# Altium footprint library NSR1020MW2T1G.PcbLib: 3 footprints
Each footprint in its own frame and in the unit in brackets; x right, y up, seen from the top. Pads: shape width x height; smd on the part's side, far side on the other; paste and mask are expansions set on the pad; w line width, h text height; cw(c..) or ccw(c..) is an arc to the next point about the centre after c.
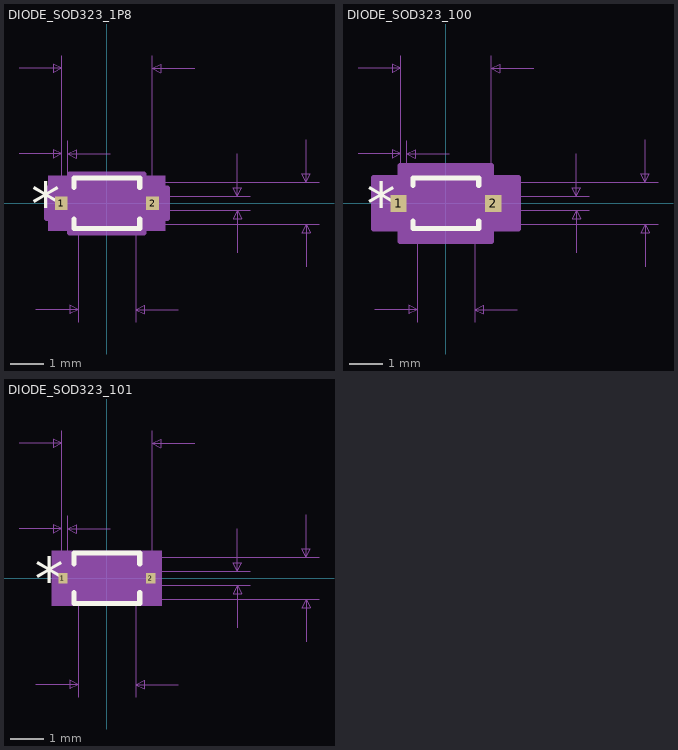
[diagram p0: the footprints below, top view; thin cyan lines are the x and y axes]

## DIODE_SOD323_1P8 [mil]
pads (2):
  rect 15x16 smd paste+0 mask+0: 1(-53.5,0) 2(53.5,0)
Top Overlay:
  lines w6: -38.5,-18.74 -38.5,-29.5 38.5,-29.5 38.5,-18.74 ; -38.5,18.74 -38.5,29.5 38.5,29.5 38.5,18.74
  text "*" at -88.5,-25 h50
Mechanical 5:
  region: 68.5,-32 -68.5,-32 -68.5,32 68.5,32
Mechanical 7:
  lines w1: -103,58 -53,58 ; -103,158 -53,158 ; -83.5,-124.5 -33.5,-124.5 ; -53,73 -53,0 -53,173 ; -46,0 -46,73 ; -33.5,-139.5 -33.5,0 ; 0,-24.5 248.5,-24.5 ; 0,24.5 248.5,24.5 ; 4,58 -46,58 ; 33.5,-139.5 33.5,0 ; 53,-8 168,-8 ; 53,0 53,173 ; 53,8 168,8 ; 83.5,-124.5 33.5,-124.5 ; 103,158 53,158 ; 153,-58 153,-8 ; 153,58 153,8 ; 233.5,-74.5 233.5,-24.5 ; 233.5,74.5 233.5,24.5 ; -53,58 -63,63 -63,53 -53,58 ; -53,158 -63,163 -63,153 -53,158 ; -46,58 -36,63 -36,53 -46,58 ; -33.5,-124.5 -43.5,-119.5 -43.5,-129.5 -33.5,-124.5 ; 33.5,-124.5 43.5,-119.5 43.5,-129.5 33.5,-124.5 ; 53,158 63,163 63,153 53,158 ; 153,-8 148,-18 158,-18 153,-8 ; 153,8 148,18 158,18 153,8 ; 233.5,-24.5 228.5,-34.5 238.5,-34.5 233.5,-24.5 ; 233.5,24.5 228.5,34.5 238.5,34.5 233.5,24.5
  text "Default Padstyle: RX15Y16D0T" at -350,-333 h50
  text "Alt 1 Padstyle: OX60Y90D30P" at -337.5,-408 h50
  text "Alt 2 Padstyle: OX90Y60D30P" at -337.5,-483 h50
  text "0.106in/2.692mm" at -93.75,178 h25
  text "0.007in/0.178mm" at -143.25,78 h25
  text "0.016in/0.406mm" at 173,-12.5 h25
  text "0.049in/1.245mm" at 253.5,-12.5 h25
  text "0.067in/1.702mm" at -93.75,-169.5 h25
Mechanical 13:
  lines w1: -33.5,-12.25 -21.25,-24.5 ; -33.5,12.25 -21.25,24.5 ; -53,-8 -53,8 -33.5,8 -33.5,-8 -53,-8 ; -33.5,-24.5 33.5,-24.5 33.5,24.5 -33.5,24.5 -33.5,-24.5 ; 33.5,-8 33.5,8 53,8 53,-8 33.5,-8
  text "*" at -36,-25 h50
Mechanical 15:
  region: -43.5,-18 -71,-18 -71,18 -43.5,18 -43.5,34.5 43.5,34.5 43.5,18 71,18 71,-18 43.5,-18 43.5,-34.5 -43.5,-34.5
  lines w6: -71,-18 -71,18 -43.5,18 -43.5,34.5 43.5,34.5 43.5,18 71,18 71,-18 43.5,-18 43.5,-34.5 -43.5,-34.5 -43.5,-18 -71,-18
3D body: height 10, standoff 0, extent 0,0 10,10

## DIODE_SOD323_100 [mil]
pads (2):
  rect 19x20 smd paste+0 mask+0: 1(-55.5,0) 2(55.5,0)
Top Overlay:
  lines w6: -38.5,-20.74 -38.5,-29.5 38.5,-29.5 38.5,-20.74 ; -38.5,20.74 -38.5,29.5 38.5,29.5 38.5,20.74
  text "*" at -92.5,-25 h50
Mechanical 5:
  region: 72.5,-32 -72.5,-32 -72.5,32 72.5,32
Mechanical 7:
  lines w1: -103,58 -53,58 ; -103,158 -53,158 ; -83.5,-124.5 -33.5,-124.5 ; -53,73 -53,0 -53,173 ; -46,0 -46,73 ; -33.5,-139.5 -33.5,0 ; 0,-24.5 248.5,-24.5 ; 0,24.5 248.5,24.5 ; 4,58 -46,58 ; 33.5,-139.5 33.5,0 ; 53,-8 168,-8 ; 53,0 53,173 ; 53,8 168,8 ; 83.5,-124.5 33.5,-124.5 ; 103,158 53,158 ; 153,-58 153,-8 ; 153,58 153,8 ; 233.5,-74.5 233.5,-24.5 ; 233.5,74.5 233.5,24.5 ; -53,58 -63,63 -63,53 -53,58 ; -53,158 -63,163 -63,153 -53,158 ; -46,58 -36,63 -36,53 -46,58 ; -33.5,-124.5 -43.5,-119.5 -43.5,-129.5 -33.5,-124.5 ; 33.5,-124.5 43.5,-119.5 43.5,-129.5 33.5,-124.5 ; 53,158 63,163 63,153 53,158 ; 153,-8 148,-18 158,-18 153,-8 ; 153,8 148,18 158,18 153,8 ; 233.5,-24.5 228.5,-34.5 238.5,-34.5 233.5,-24.5 ; 233.5,24.5 228.5,34.5 238.5,34.5 233.5,24.5
  text "Default Padstyle: RX19Y20D0T" at -350,-335 h50
  text "Alt 1 Padstyle: OX60Y90D30P" at -337.5,-410 h50
  text "Alt 2 Padstyle: OX90Y60D30P" at -337.5,-485 h50
  text "0.106in/2.692mm" at -93.75,178 h25
  text "0.007in/0.178mm" at -143.25,78 h25
  text "0.016in/0.406mm" at 173,-12.5 h25
  text "0.049in/1.245mm" at 253.5,-12.5 h25
  text "0.067in/1.702mm" at -93.75,-169.5 h25
Mechanical 13:
  lines w1: -33.5,-12.25 -21.25,-24.5 ; -33.5,12.25 -21.25,24.5 ; -53,-8 -53,8 -33.5,8 -33.5,-8 -53,-8 ; -33.5,-24.5 33.5,-24.5 33.5,24.5 -33.5,24.5 -33.5,-24.5 ; 33.5,-8 33.5,8 53,8 53,-8 33.5,-8
  text "*" at -36,-25 h50
Mechanical 15:
  region: -53.5,-30 -85,-30 -85,30 -53.5,30 -53.5,44.5 53.5,44.5 53.5,30 85,30 85,-30 53.5,-30 53.5,-44.5 -53.5,-44.5
  lines w6: -85,-30 -85,30 -53.5,30 -53.5,44.5 53.5,44.5 53.5,30 85,30 85,-30 53.5,-30 53.5,-44.5 -53.5,-44.5 -53.5,-30 -85,-30
3D body: height 10, standoff 0, extent 0,0 10,10

## DIODE_SOD323_101 [mil]
pads (2):
  rect 11x12 smd paste+0 mask+0: 1(-51.5,0) 2(51.5,0)
Top Overlay:
  lines w6: -38.5,-16.74 -38.5,-29.5 38.5,-29.5 38.5,-16.74 ; -38.5,16.74 -38.5,29.5 38.5,29.5 38.5,16.74
  text "*" at -84.5,-25 h50
Mechanical 5:
  region: 64.5,-32 -64.5,-32 -64.5,32 64.5,32
Mechanical 7:
  lines w1: -103,58 -53,58 ; -103,158 -53,158 ; -83.5,-124.5 -33.5,-124.5 ; -53,73 -53,0 -53,173 ; -46,0 -46,73 ; -33.5,-139.5 -33.5,0 ; 0,-24.5 248.5,-24.5 ; 0,24.5 248.5,24.5 ; 4,58 -46,58 ; 33.5,-139.5 33.5,0 ; 53,-8 168,-8 ; 53,0 53,173 ; 53,8 168,8 ; 83.5,-124.5 33.5,-124.5 ; 103,158 53,158 ; 153,-58 153,-8 ; 153,58 153,8 ; 233.5,-74.5 233.5,-24.5 ; 233.5,74.5 233.5,24.5 ; -53,58 -63,63 -63,53 -53,58 ; -53,158 -63,163 -63,153 -53,158 ; -46,58 -36,63 -36,53 -46,58 ; -33.5,-124.5 -43.5,-119.5 -43.5,-129.5 -33.5,-124.5 ; 33.5,-124.5 43.5,-119.5 43.5,-129.5 33.5,-124.5 ; 53,158 63,163 63,153 53,158 ; 153,-8 148,-18 158,-18 153,-8 ; 153,8 148,18 158,18 153,8 ; 233.5,-24.5 228.5,-34.5 238.5,-34.5 233.5,-24.5 ; 233.5,24.5 228.5,34.5 238.5,34.5 233.5,24.5
  text "Default Padstyle: RX11Y12D0T" at -350,-331 h50
  text "Alt 1 Padstyle: OX60Y90D30P" at -337.5,-406 h50
  text "Alt 2 Padstyle: OX90Y60D30P" at -337.5,-481 h50
  text "0.106in/2.692mm" at -93.75,178 h25
  text "0.007in/0.178mm" at -143.25,78 h25
  text "0.016in/0.406mm" at 173,-12.5 h25
  text "0.049in/1.245mm" at 253.5,-12.5 h25
  text "0.067in/1.702mm" at -93.75,-169.5 h25
Mechanical 13:
  lines w1: -33.5,-12.25 -21.25,-24.5 ; -33.5,12.25 -21.25,24.5 ; -53,-8 -53,8 -33.5,8 -33.5,-8 -53,-8 ; -33.5,-24.5 33.5,-24.5 33.5,24.5 -33.5,24.5 -33.5,-24.5 ; 33.5,-8 33.5,8 53,8 53,-8 33.5,-8
  text "*" at -36,-25 h50
Mechanical 15:
  region: -37.5,-10 -61,-10 -61,10 -37.5,10 -37.5,28.5 37.5,28.5 37.5,10 61,10 61,-10 37.5,-10 37.5,-28.5 -37.5,-28.5
  lines w6: -61,-10 -61,10 -37.5,10 -37.5,28.5 37.5,28.5 37.5,10 61,10 61,-10 37.5,-10 37.5,-28.5 -37.5,-28.5 -37.5,-10 -61,-10
3D body: height 10, standoff 0, extent 0,0 10,10